# EAGLE library part LD09S13A4GX00LF (library LD09S13A4GX00LF)
D-Subminiature Economy Range, Input Output Connectors, Signal 9 way Socket Right Angle, Solder Europe standard, 50 cycles, Harpoons + Threaded Insert UNC 4 - 40 + Elec cont., 1.6 mm PCB thickness Source: Datasheet <https://cdn.amphenol-cs.com/media/wysiwyg/files/drawing/10130913.pdf>
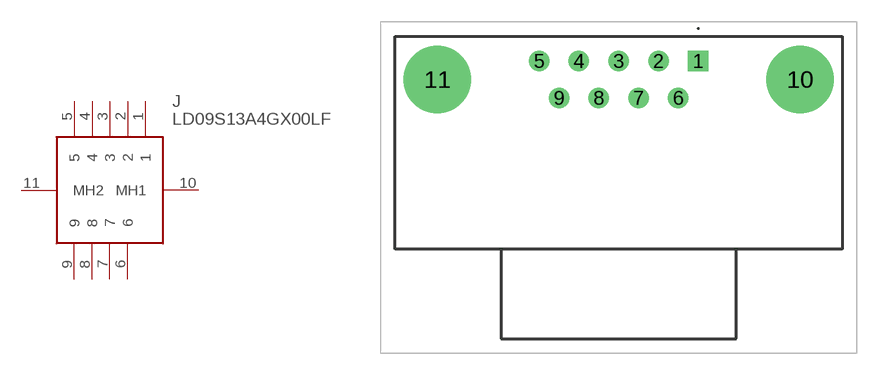
[diagram p0: symbol with the pads of LD09S13A4GX00LF; footprint LD09S13A4GX00LF]

Designator prefix J

## LD09S13A4GX00LF (Description: D-Subminiature Economy Range, Input Output Connectors, Signal 9 way Socket Right Angle, Solder Europe standard, 50 cycles, Harpoons + Threaded Insert UNC 4 - 40 + Elec cont., 1.6 mm PCB thickness; Height: 13.86mm; Manufacturer_Name: Amphenol Communications Solutions; Manufacturer_Part_Number: LD09S13A4GX00LF)  [LD09S13A4GX00LF]
1  1
2  2
3  3
4  4
5  5
6  6
7  7
8  8
9  9
10  MH1
11  MH2

## Footprint LD09S13A4GX00LF (pad centres in mm)
LD09S13A4GX00LF-2
drill 0.9 pad 1.4 square: 1 0,0
drill 0.9 pad 1.4: 2 -2.74,0; 3 -5.48,0; 4 -8.22,0; 5 -10.96,0; 6 -1.37,-2.54; 7 -4.11,-2.54; 8 -6.85,-2.54; 9 -9.59,-2.54
drill 3.1 pad 4.65: 10 7.015,-1.27; 11 -17.975,-1.27